# EAGLE library part GHI-IC_TPD4S012DRYR (library PocketBeagle)
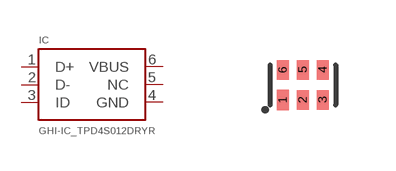
[diagram p9: symbol with the pads of GHI-IC_SON-6(TI)-DRY; footprint GHI-IC_SON-6(TI)-DRY]

Designator prefix IC

## GHI-IC_TPD4S012DRYR  [GHI-IC_SON-6(TI)-DRY]
1  D+
2  D-
3  ID
4  GND
5  NC
6  VBUS

## Footprint GHI-IC_SON-6(TI)-DRY (pad centres in mm)
smd 0.3 x 0.52: 1 -0.5,-0.38
smd 0.3 x 0.49: 2 0,-0.375; 3 0.5,-0.375; 4 0.5,0.375; 5 0,0.375; 6 -0.5,0.375